# Altium footprint library BRD_090_Rev2.0.PcbLib: 4 footprints
Each footprint in its own frame and in the unit in brackets; x right, y up, seen from the top. Pads: shape width x height; smd on the part's side, far side on the other; paste and mask are expansions set on the pad; w line width, h text height; cw(c..) or ccw(c..) is an arc to the next point about the centre after c.
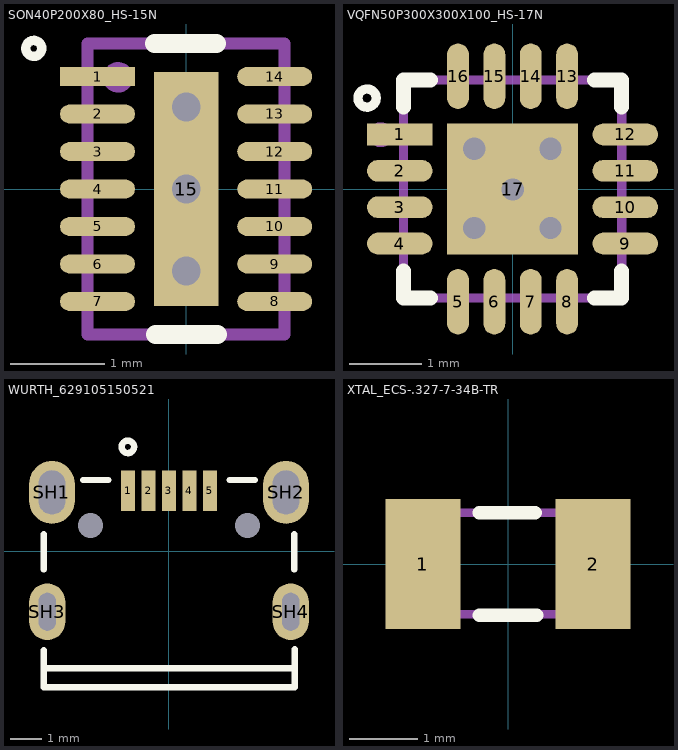
[diagram p0: the footprints below, top view; thin cyan lines are the x and y axes]

## SON40P200X80_HS-15N [mm] "SON, 14-Leads, Body 3.00x2.00mm, Pitch 0.40mm, Thermal Pad 2.50x0.69mm, IPC Medium Density"
height 0.8
pads (15):
  rect 0.8x0.2 smd mask+0.069: 1(-0.945,1.2)
  oval 0.8x0.2 smd mask+0.069: 2(-0.945,0.8) 3(-0.945,0.4) 4(-0.945,0) 5(-0.945,-0.4) 6(-0.945,-0.8) 7(-0.945,-1.2) 8(0.945,-1.2) 9(0.945,-0.8) 10(0.945,-0.4) 11(0.945,0) 12(0.945,0.4) 13(0.945,0.8) 14(0.945,1.2)
  rect 0.69x2.5 smd paste-6.553 mask+0.076: 15(0,0)
via 0,0 diameter 0.61 hole 0.305
via 0,0.875 diameter 0.61 hole 0.305
via 0,-0.875 diameter 0.61 hole 0.305
Top Overlay:
  circle w0.1: c-1.625,1.5 r0.085
  lines w0.203: -0.337,1.55 0.325,1.55 ; -0.325,-1.55 0.337,-1.55
Top Paste:
  rectangle: -0.346,-1.249 0.345,-0.04
  region: 0.346,1.249 -0.345,1.249 -0.345,0.04 0.346,0.04
Mechanical 1:
  text "'.Designator'" at 0,0.12 h0.64
Mechanical 15:
  circle w0.1: c-0.726,1.191 r0.112
  lines w0.127: -1.05,-1.55 -1.05,1.55 1.05,1.55 1.05,-1.55 -1.05,-1.55
3D body "SON40P200X80_HS-15N.step": height 0.8, standoff 0, extent -1.1,-1.55 1.1,1.55

## VQFN50P300X300X100_HS-17N [mm] "QFN, 16-Leads, Body 3.00x3.00mm, Pitch 0.50mm, Thermal Pad 1.68x1.68mm, IPC Medium Density"
height 1
pads (17):
  rect 0.9x0.3 smd mask+0.076: 1(-1.55,0.75)
  oval 0.9x0.3 smd mask+0.076: 2(-1.55,0.25) 3(-1.55,-0.25) 4(-1.55,-0.75) 9(1.55,-0.75) 10(1.55,-0.25) 11(1.55,0.25) 12(1.55,0.75)
  oval 0.3x0.9 smd mask+0.076: 5(-0.75,-1.55) 6(-0.25,-1.55) 7(0.25,-1.55) 8(0.75,-1.55) 13(0.75,1.55) 14(0.25,1.55) 15(-0.25,1.55) 16(-0.75,1.55)
  rect 1.8x1.8 smd paste-25 mask+0.076: 17(0,0)
via 0.522,-0.538 diameter 0.61 hole 0.305
via -0.526,-0.538 diameter 0.61 hole 0.305
via 0.522,0.552 diameter 0.61 hole 0.305
via -0.526,0.552 diameter 0.61 hole 0.305
via 0.003,-0.008 diameter 0.61 hole 0.305
Top Overlay:
  circle w0.127: c-2,1.25 r0.125
  lines w0.203: -1.5,-1.127 -1.5,-1.5 -1.127,-1.5 ; -1.5,1.127 -1.5,1.5 -1.127,1.5 ; 1.127,-1.5 1.5,-1.5 1.5,-1.127 ; 1.127,1.5 1.5,1.5 1.5,1.127
Top Paste:
  rectangle: -0.899,0.04 -0.067,0.901
  region: -0.04,-0.899 -0.04,-0.067 -0.901,-0.067 -0.901,-0.899
  region: 0.899,-0.04 0.067,-0.04 0.067,-0.901 0.899,-0.901
  region: 0.04,0.899 0.04,0.067 0.901,0.067 0.901,0.899
Mechanical 15:
  circle w0.1: c-1.811,0.746 r0.12
  lines w0.127: -1.5,-1.5 -1.5,1.5 1.5,1.5 1.5,-1.5 -1.5,-1.5
3D body "QFN50P300X300X100_HS-17N.step": height 1, standoff 0, extent -1.55,-1.55 1.55,1.55

## WURTH_629105150521 [mm]
height 2.66
pads (11):
  rect 0.45x1.3 smd mask+0.064: 1(-1.3,1.925) 2(-0.65,1.925) 3(0,1.925) 4(0.65,1.925) 5(1.3,1.925)
  round 0 hole 0.8 unplated mask+0: MH1(-2.5,0.825) MH2(2.5,0.825)
  oval 1.45x2 hole 0.85 slot 1.4 at 90 deg mask+0.102: SH1(-3.725,1.875)
  oval 1.45x2 hole 0.85 slot 1.4 at 90 deg: SH2(3.725,1.875)
  oval 1.15x1.8 hole 0.55 slot 1.2 at 90 deg: SH3(-3.875,-1.925) SH4(3.875,-1.925)
Top Overlay:
  circle w0.203: c-1.31,3.324 r0.198
  lines w0.203: -3.984,-3.725 4.003,-3.725 ; -3.984,-3.145 -3.984,-4.332 4,-4.332 4.003,-4.329 4.003,-3.116 ; -3.984,-0.58 -3.984,0.538 ; -2.733,2.27 -1.935,2.27 ; 1.935,2.27 2.733,2.27 ; 3.984,-0.58 3.984,0.538
Mechanical 1:
  text "'.Designator'" at 0.254,0.593 h1.02
Mechanical 15:
  circle w0.127: c-1.287,1.921 r0.138
  lines w0.127: -3.984,-3.725 4.003,-3.725 ; -3.984,-3.145 -3.984,-4.332 4,-4.332 4.003,-4.329 4.003,-3.116 ; -3.984,-0.58 -3.984,0.538 ; -2.733,2.27 -1.935,2.27 ; 1.935,2.27 2.733,2.27 ; 3.984,-0.58 3.984,0.538
3D body "629105150521_Download_STP_629105150521_rev1.stp": height 2.77, standoff -1.75, extent -3.983,-4.332 4.017,2.271

## XTAL_ECS-.327-7-34B-TR [mm]
height 0.9
pads (2):
  rect 1.1x1.9 smd mask+0.076: 1(-1.25,0) 2(1.25,0)
Top Overlay:
  lines w0.203: -0.422,0.752 0.397,0.752 ; -0.418,-0.752 0.421,-0.752
Mechanical 1:
  text "'.Designator'" at 0,0.12 h0.64
Mechanical 15:
  lines w0.127: 1.598,0.75 -1.597,0.75 -1.597,-0.738 1.602,-0.738 1.602,0.746
3D body "ECS-.327-7-34B-TR.STEP": height 0.9, standoff 0, extent -1.6,-0.75 1.6,0.75